# Altium schematic symbol library BJT.Schlib: 4 symbols
Pins are listed as number, name and electrical type; pins without a type are passive.

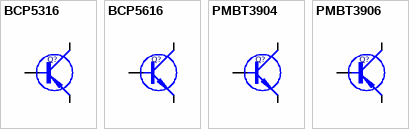
[diagram p0: symbols BCP5316 to PMBT3906]

## BCP5316
designator Q?
pins: 1 B, 2 C, 3 E

## BCP5616
designator Q?
pins: 1 B, 2 C, 3 E
1 alternate drawing of the same symbol

## PMBT3904
designator Q?
pins: 1 B, 2 E, 3 C
1 alternate drawing of the same symbol

## PMBT3906
designator Q?
footprint Model Name (Footprint not found)
pins: 1 B, 2 E, 3 C